# Altium schematic symbol library MB0041A.01.A.1.SchLib: 1 symbol
Pins are listed as number, name and electrical type; pins without a type are passive.

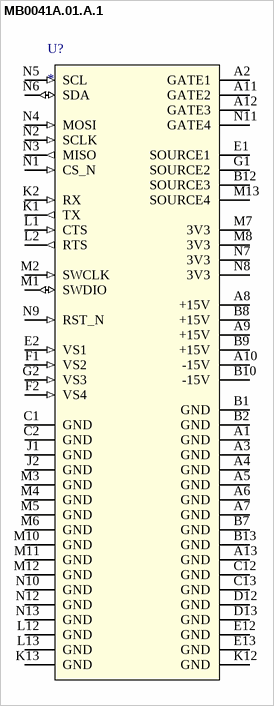
[diagram p0: symbol MB0041A.01.A.1]

## MB0041A.01.A.1
designator U?
pins: A1 GND (power), A2 GATE1, A3 GND (power), A4 GND (power), A5 GND (power), A6 GND (power), A7 GND (power), A8 +15V (power), A9 +15V (power), A10 -15V (power), A11 GATE2, A12 GATE3, A13 GND (power), B1 GND (power), B2 GND (power), B7 GND (power), B8 +15V (power), B9 +15V (power), B10 -15V (power), B12 SOURCE3, B13 GND (power), C1 GND (power), C2 GND (power), C12 GND (power), C13 GND (power), D12 GND (power), D13 GND (power), E1 SOURCE1, E2 VS1 (in), E12 GND (power), E13 GND (power), F1 VS2 (in), F2 VS4 (in), G1 SOURCE2, G2 VS3 (in), J1 GND (power), J2 GND (power), K1 TX (out), K2 RX (in), K12 GND (power), K13 GND (power), L1 CTS (in), L2 RTS (out), L12 GND (power), L13 GND (power), M1 SWDIO (io), M2 SWCLK (in), M3 GND (power), M4 GND (power), M5 GND (power), M6 GND (power), M7 3V3 (power), M8 3V3 (power), M10 GND (power), M11 GND (power), M12 GND (power), M13 SOURCE4, N1 CS_N (in), N2 SCLK (in), N3 MISO (out), N4 MOSI (in), N5 SCL (in), N6 SDA (io), N7 3V3 (power), N8 3V3 (power), N9 RST_N (in), N10 GND (power), N11 GATE4, N12 GND (power), N13 GND (power)